# EAGLE library part DPDT_ON-ON_SM (library modular_robot_parts)
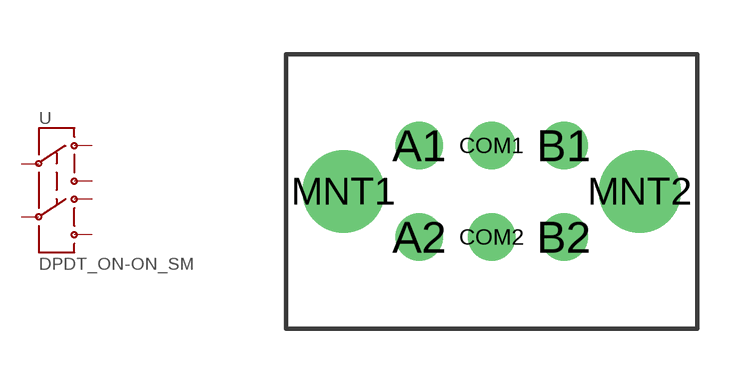
[diagram p6: symbol with the pads of SW_OS202011MS2QS1; footprint SW_OS202011MS2QS1]

Designator prefix -

## DPDT_ON-ON_SM  [SW_OS202011MS2QS1]
A1  A1
A2  A2
B1  B1
B2  B2
COM1  COM1
COM2  COM2

## Footprint SW_OS202011MS2QS1 (pad centres in mm)
drill 0.813 round: A1 -2.007,1.27; A2 -2.007,-1.27; B1 2.007,1.27; B2 2.007,-1.27; COM1 0,1.27; COM2 0,-1.27
drill 1.524 round: MNT1 -4.115,0; MNT2 4.115,0